# EAGLE library part TS5A23166DCUR (library flync)
SPST ANALOG SWITCH
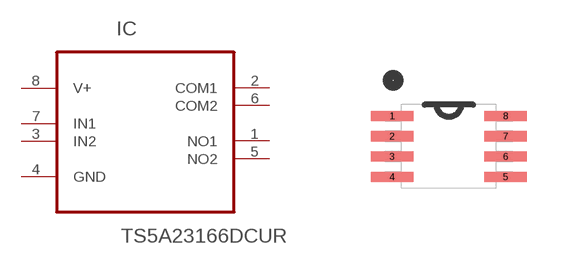
[diagram p8: symbol with the pads of SOP50P310X90-8N; footprint SOP50P310X90-8N]

Designator prefix IC

## TS5A23166DCUR (AVAILABILITY: Unavailable; DESCRIPTION: 0.9-Ohm Dual SPST Analog Switch 5-V/3.3-V 2-Channel Analog Switch 8-VSSOP -40 to 85; MF: Texas Instruments; MP: TS5A23166DCUR; PACKAGE: VFSOP-8 Texas Instruments; PRICE: None)  [SOP50P310X90-8N]
1  NO1
2  COM1
3  IN2  in
4  GND  pas
5  NO2
6  COM2
7  IN1  in
8  V+  pwr

## Footprint SOP50P310X90-8N (pad centres in mm)
smd 1.067 x 0.254: 1 -1.422,0.762; 2 -1.422,0.254; 3 -1.422,-0.254; 4 -1.422,-0.762; 5 1.422,-0.762; 6 1.422,-0.254; 7 1.422,0.254; 8 1.422,0.762